# Altium footprint library AMPHENOL_77311-101-06LF.PcbLib: 1 footprints
Each footprint in its own frame and in the unit in brackets; x right, y up, seen from the top. Pads: shape width x height; smd on the part's side, far side on the other; paste and mask are expansions set on the pad; w line width, h text height; cw(c..) or ccw(c..) is an arc to the next point about the centre after c.
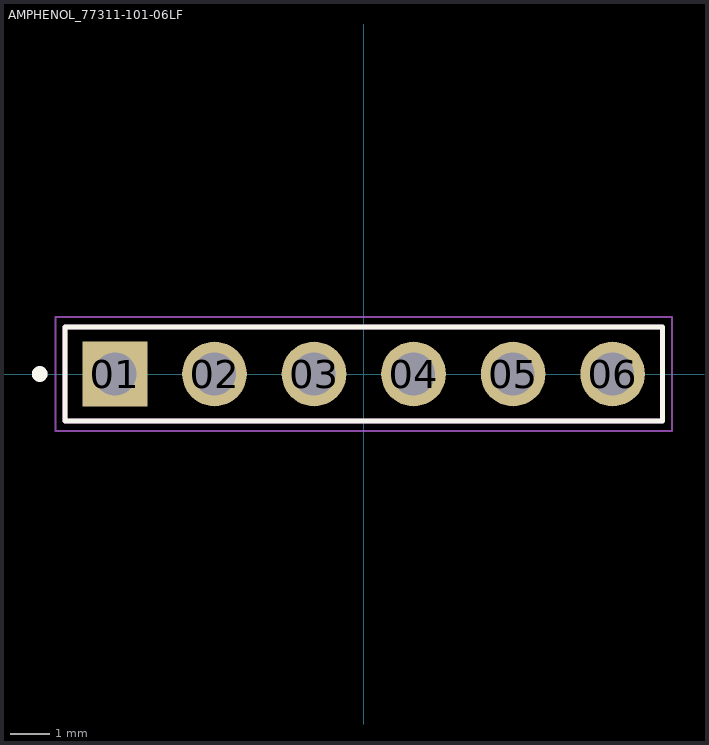
[diagram p0: the footprint, top view; thin cyan lines are the x and y axes]

## AMPHENOL_77311-101-06LF [mm]
pads (6):
  rect 1.65x1.65 / inner round 1.65 / far side rect 1.65x1.65 hole 1.1: 01(-6.35,0)
  round 1.65 hole 1.1: 02(-3.81,0) 03(-1.27,0) 04(1.27,0) 05(3.81,0) 06(6.35,0)
Top Overlay:
  circle w0.2: c-8.27,0 r0.1
  lines w0.127: -7.62,-1.2 -7.62,1.2 7.62,1.2 7.62,-1.2 -7.62,-1.2
Mechanical 13:
  circle w0.2: c-8.27,0 r0.1
  lines w0.127: -7.62,-1.2 -7.62,1.2 7.62,1.2 7.62,-1.2 ; -7.62,-1.2 7.62,-1.2 ; -7.62,-1.2 7.62,-1.2
Mechanical 15:
  lines w0.05: -7.87,-1.45 -7.87,1.45 7.87,1.45 7.87,-1.45 -7.87,-1.45
3D body "step_temp.STEP": height -2.13, standoff -4.54, extent 12.427,-3.103 27.267,7.697